# Altium footprint library zener_6.2.PcbLib: 1 footprints
Each footprint in its own frame and in the unit in brackets; x right, y up, seen from the top. Pads: shape width x height; smd on the part's side, far side on the other; paste and mask are expansions set on the pad; w line width, h text height; cw(c..) or ccw(c..) is an arc to the next point about the centre after c.
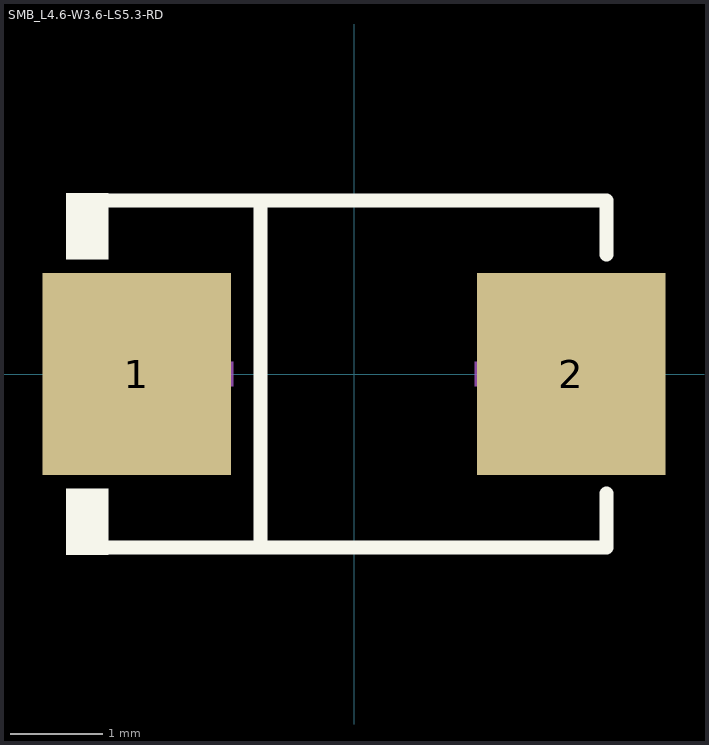
[diagram p0: the footprint, top view; thin cyan lines are the x and y axes]

## SMB_L4.6-W3.6-LS5.3-RD [mm]
pads (2):
  rect 2.047x2.192 smd: 1(-2.361,0) 2(2.361,0)
Top Overlay:
  region: -2.668,-1.962 -2.668,-1.249 -3.125,-1.249 -3.125,-1.962
  region: -2.668,1.962 -2.668,1.249 -3.125,1.249 -3.125,1.962
  lines w0.152: -2.744,-1.886 2.744,-1.886 2.744,-1.299 ; -2.744,1.886 2.744,1.886 2.744,1.299 ; -1.016,-1.886 -1.016,1.886
Mechanical 15:
  region: 1.989,-0.905 1.989,0.905 1.717,0.905 1.717,-0.905
  region: 2.396,-0.136 2.396,0.136 1.31,0.136 1.31,-0.136
  region: -2.396,-0.136 -2.396,0.136 -1.31,0.136 -1.31,-0.136